# Altium footprint library SMD-4.PcbLib: 1 footprints
Each footprint in its own frame and in the unit in brackets; x right, y up, seen from the top. Pads: shape width x height; smd on the part's side, far side on the other; paste and mask are expansions set on the pad; w line width, h text height; cw(c..) or ccw(c..) is an arc to the next point about the centre after c.
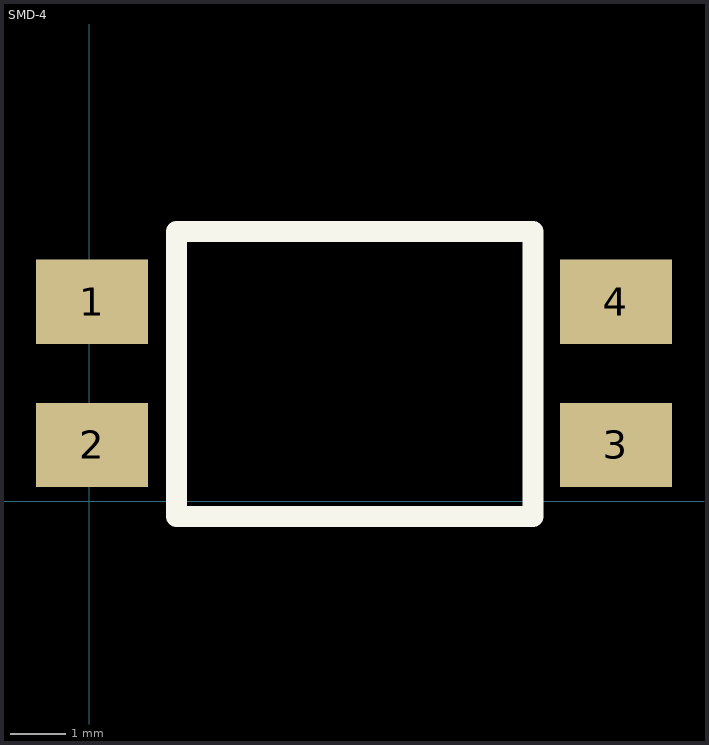
[diagram p0: the footprint, top view; thin cyan lines are the x and y axes]

## SMD-4 [mil]
pads (4):
  rect 80x60 smd: 1(2,142) 2(2,40) 3(375,40) 4(375,142)
Top Overlay:
  lines w15: 62,-11 62,192 316,192 316,-11 62,-11
  text "." at -0.08,214 h10
3D body "DIP4 Gullwing.STEP": height 141.34, standoff -0.39, extent 0.03,0 377.98,181.1